# EAGLE library part PCM1718E (library burr-brown-3)
SoundPlus(TM) Stereo Audio DAC
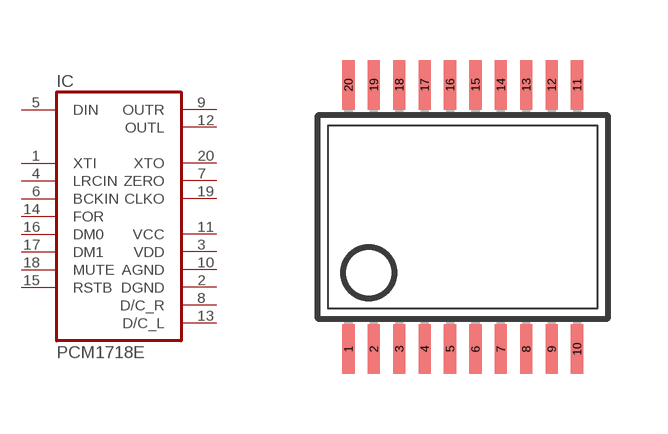
[diagram p103: symbol with the pads of SSOP20DB; footprint SSOP20DB]

Designator prefix IC

## PCM1718E  [SSOP20DB]
1  XTI  in
2  DGND  pwr
3  VDD  pwr
4  LRCIN  in
5  DIN  in
6  BCKIN  in
7  ZERO  out
8  D/C_R  pwr
9  OUTR  out
10  AGND  pwr
11  VCC  pwr
12  OUTL  out
13  D/C_L  pwr
14  FOR  in
15  RSTB  in
16  DM0  in
17  DM1  in
18  MUTE  in
19  CLKO  out
20  XTO  out

## Footprint SSOP20DB (pad centres in mm)
Small Shrink Outline Package
smd 0.305 x 1.245: 1 -2.857,-3.302; 2 -2.222,-3.302; 3 -1.587,-3.302; 4 -0.952,-3.302; 5 -0.317,-3.302; 6 0.318,-3.302; 7 0.953,-3.302; 8 1.588,-3.302; 9 2.223,-3.302; 10 2.858,-3.302; 11 2.858,3.302; 12 2.223,3.302; 13 1.588,3.302; 14 0.953,3.302; 15 0.318,3.302; 16 -0.317,3.302; 17 -0.952,3.302; 18 -1.587,3.302; 19 -2.222,3.302; 20 -2.857,3.302